# Altium schematic symbol library ERA6AHD330V.SchLib: 1 symbol
Pins are listed as number, name and electrical type; pins without a type are passive.

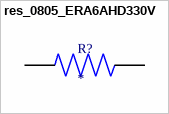
[diagram p0: symbol res_0805_ERA6AHD330V]

## res_0805_ERA6AHD330V
designator R?
RES 0805; MP: ERA6AHD330V; Package: None; Price: None; Value: *; Availability: Unavailable
footprint RES_ERA6AHD330V
pins: 1, 2